# Altium schematic symbol library power-schlib.SchLib: 8 symbols
Pins are listed as number, name and electrical type; pins without a type are passive.

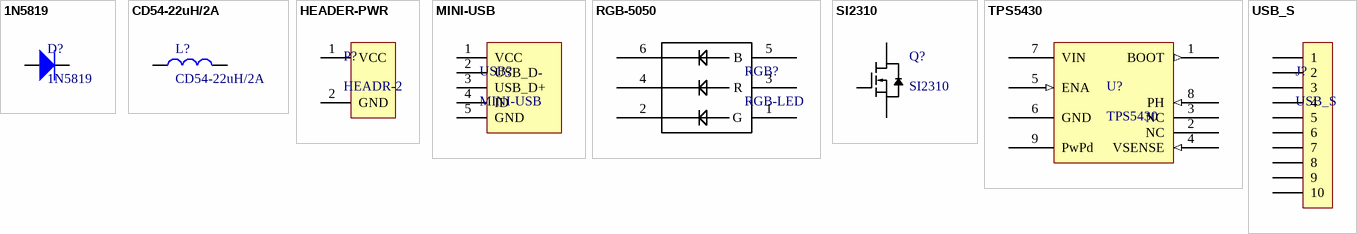
[diagram p0: symbols 1N5819 to USB_S]

## 1N5819
designator D?
footprint 0603_C (Capacitor ; non-polarized ; Chip : 1.58mm L ; Pad:0.8mmX0.96mmY)
pins: 1, 2

## CD54-22uH/2A
designator L?
pins: 1, 2

## HEADER-PWR
designator P?, comment HEADR-2
pins: 1 VCC (power), 2 GND (power)

## MINI-USB
designator USB?
pins: 1 VCC (power), 2 USB_D-, 3 USB_D+, 4 ID, 5 GND (power)

## RGB-5050
designator RGB?, comment RGB-LED
pins: 1 G, 2, 3 R, 4, 5 B, 6

## SI2310
designator Q?
pins: 1 GATE, 2 SOURCE, 3 DRAIN

## TPS5430
designator U?
footprint SOP8_L (5*6*1.8mm（长宽高）)
pins: 1 BOOT (out), 2 NC, 3 NC, 4 VSENSE (in), 5 ENA (in), 6 GND (power), 7 VIN (power), 8 PH (in), 9 PwPd (power)

## USB_S
designator J?
pins: 1, 2, 3, 4, 5, 6, 7, 8, 9, 10